# EAGLE library part M09X1 (library Connectors)
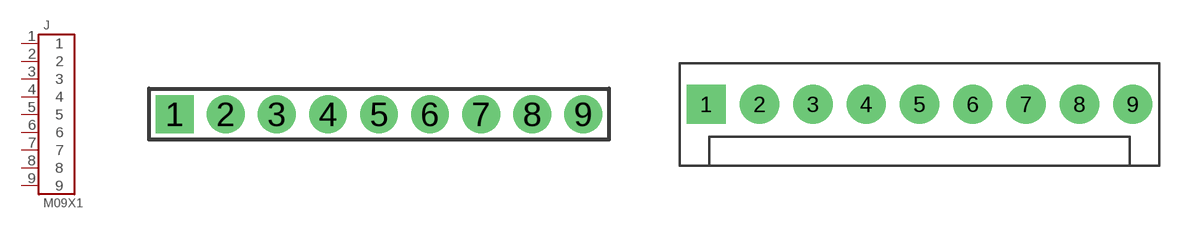
[diagram p31: symbol with the pads of M09X1; footprints M09X1, M09X1-POWER]

Designator prefix J

## M09X1-100MIL-PTH  [M09X1]
1  1
2  2
3  3
4  4
5  5
6  6
7  7
8  8
9  9

## M09X1-POWER  [M09X1-POWER]
Pads as for M09X1

## Footprint M09X1 (pad centres in mm)
drill 1.016 pad 1.88 square: 1 -10.16,0
drill 1.016 pad 1.88: 2 -7.62,0; 3 -5.08,0; 4 -2.54,0; 5 0,0; 6 2.54,0; 7 5.08,0; 8 7.62,0; 9 10.16,0

## Footprint M09X1-POWER (pad centres in mm)
drill 1.778 pad 2.921 square: 1 -15.85,0.762
drill 1.778 pad 2.921: 2 -11.887,0.762; 3 -7.925,0.762; 4 -3.962,0.762; 5 0,0.762; 6 3.962,0.762; 7 7.925,0.762; 8 11.887,0.762; 9 15.85,0.762